# Altium schematic symbol library RN2903.SchLib: 11 symbols
Pins are listed as number, name and electrical type; pins without a type are passive.

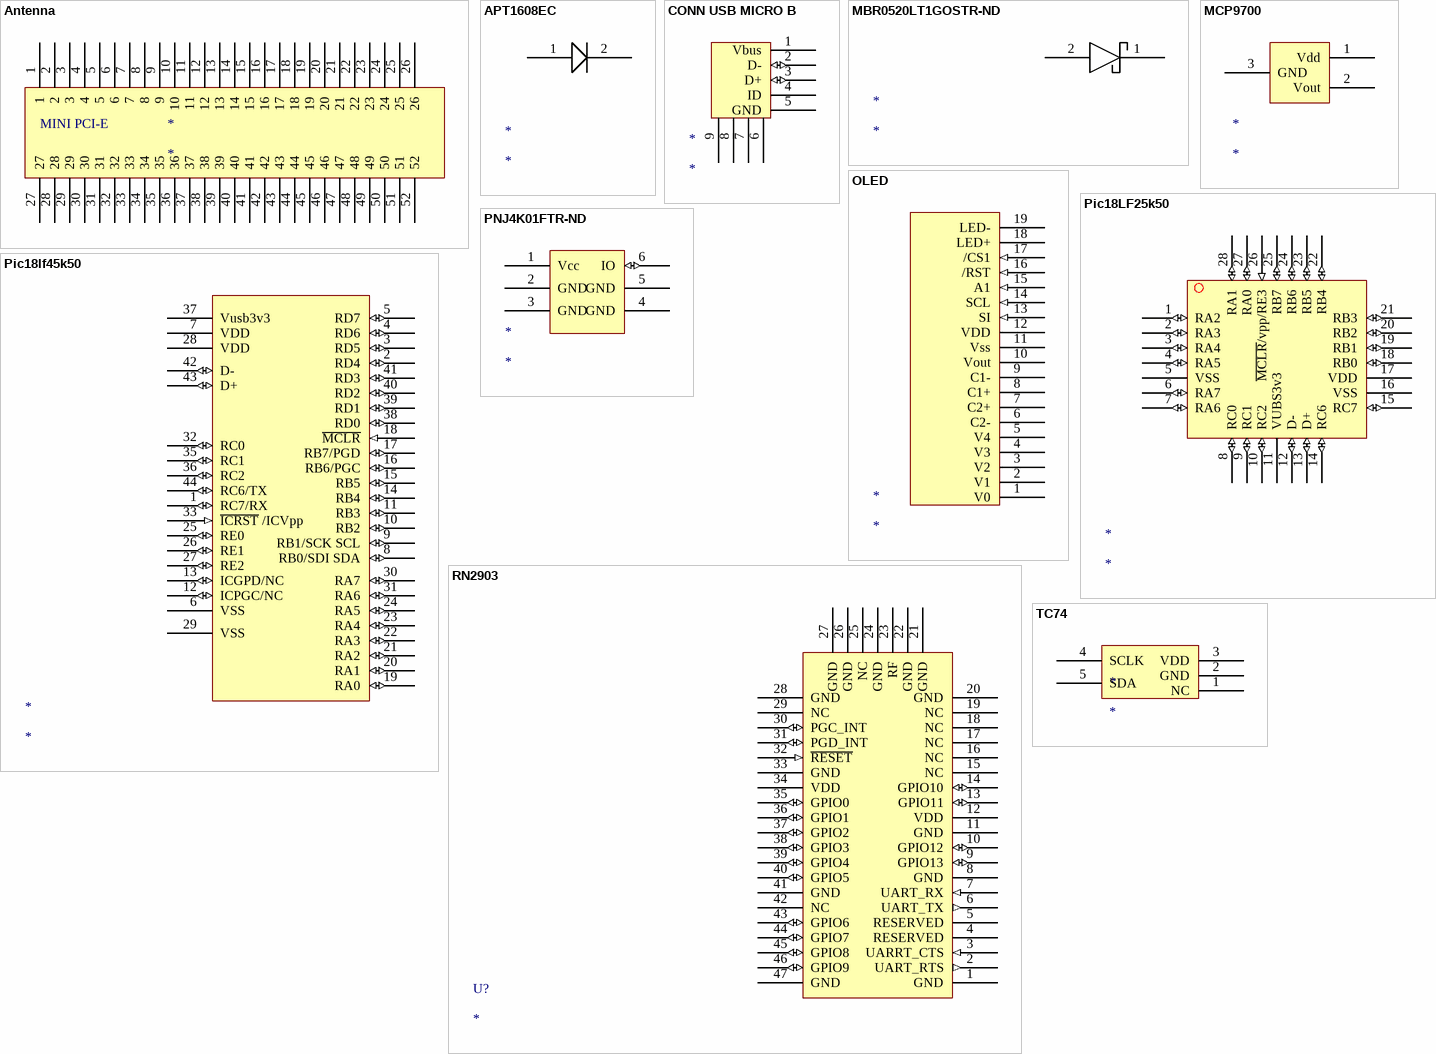
[diagram p0: symbols Antenna to TC74]

## Antenna
designator *
footprint Antenna (SMA-J-P-X-ST-EM1)
pins: 1, 2, 3, 4, 5, 6, 7, 8, 9, 10, 11, 12, 13, 14, 15, 16, 17, 18, 19, 20, 21, 22, 23, 24, 25, 26, 27, 28, 29, 30, 31, 32, 33, 34, 35, 36, 37, 38, 39, 40, 41, 42, 43, 44, 45, 46, 47, 48, 49, 50, 51, 52
text: MINI PCI-E

## APT1608EC
designator *
pins: 1, 2 0

## CONN USB MICRO B
designator *
footprint CONN USB MICRO B (10118192-0001LF)
pins: 1 Vbus (power), 2 D- (io), 3 D+ (io), 4 ID, 5 GND (power), 6 GND (power), 7 GND (power), 8 GND (power), 9 GND (power)

## MBR0520LT1GOSTR-ND
designator *
footprint Diode
pins: 1, 2 0

## MCP9700
designator *
footprint SOT95P237X10-3N (SOT23, 3-Leads, Body 3.0x2.6mm (max), Pitch 0.95mm, IPC Medium Density)
pins: 1 Vdd (power), 2 Vout (power), 3 GND (power)

## OLED
designator *
footprint OLED (NHD-C12832A1Z-FSW-FBW-3V3)
pins: 1 V0 (power), 2 V1 (power), 3 V2 (power), 4 V3 (power), 5 V4 (power), 6 C2- (power), 7 C2+ (power), 8 C1+ (power), 9 C1- (power), 10 Vout (power), 11 Vss (power), 12 VDD (power), 13 SI (in), 14 SCL (in), 15 A1 (in), 16 /RST (in), 17 /CS1 (in), 18 LED+ (power), 19 LED- (power)

## Pic18LF25k50
designator *
footprint PIC18LF25k50 28Pin (QFN, 28-Leads, Body 6.0x6.0mm (max), Pitch 0.65mm, IPC Medium Density)
pins: 1 RA2 (io), 2 RA3 (io), 3 RA4 (io), 4 RA5 (io), 5 VSS (power), 6 RA7 (io), 7 RA6 (io), 8 RC0 (io), 9 RC1 (io), 10 RC2 (io), 11 VUBS3v3 (power), 12 D- (io), 13 D+ (io), 14 RC6 (io), 15 RC7 (io), 16 VSS (power), 17 VDD (power), 18 RB0 (io), 19 RB1 (io), 20 RB2 (io), 21 RB3 (io), 22 RB4 (io), 23 RB5 (io), 24 RB6 (io), 25 RB7 (io), 26 ~{MCLR}/vpp/RE3 (in), 27 RA0 (io), 28 RA1 (io)

## Pic18lf45k50
designator *
footprint TQFP-44_M (44-Pin Thin Quad Flat Pack 0.8 mm Pitch, 1.0/0.1 mm Lead Form, IPC Low Density)
pins: 1 RC7/RX (io), 2 RD4 (io), 3 RD5 (io), 4 RD6 (io), 5 RD7 (io), 6 VSS (power), 7 VDD (power), 8 RB0/SDI SDA (io), 9 RB1/SCK SCL (io), 10 RB2 (io), 11 RB3 (io), 12 ICPGC/NC (io), 13 ICGPD/NC (io), 14 RB4 (io), 15 RB5 (io), 16 RB6/PGC (io), 17 RB7/PGD (io), 18 ~{MCLR} (in), 19 RA0 (io), 20 RA1 (io), 21 RA2 (io), 22 RA3 (io), 23 RA4 (io), 24 RA5 (io), 25 RE0 (io), 26 RE1 (io), 27 RE2 (io), 28 VDD (power), 29 VSS (power), 30 RA7 (io), 31 RA6 (io), 32 RC0 (io), 33 ~{ICRST} /ICVpp (in), 35 RC1 (io), 36 RC2 (io), 37 Vusb3v3 (power), 38 RD0 (io), 39 RD1 (io), 40 RD2 (io), 41 RD3 (io), 42 D- (io), 43 D+ (io), 44 RC6/TX (io)

## PNJ4K01FTR-ND
designator *
footprint PNJ4K01FTR-ND (PNJ4K01F)
pins: 1 Vcc (power), 2 GND (power), 3 GND (power), 4 GND (power), 5 GND (power), 6 IO (io)

## RN2903
designator U?
footprint RN2903
pins: 1 GND (power), 2 UART_RTS (out), 3 UARRT_CTS (in), 4 RESERVED, 5 RESERVED, 6 UART_TX (out), 7 UART_RX (in), 8 GND (power), 9 GPIO13 (io), 10 GPIO12 (io), 11 GND (power), 12 VDD (power), 13 GPIO11 (io), 14 GPIO10 (io), 15 NC, 16 NC, 17 NC, 18 NC, 19 NC, 20 GND, 21 GND (power), 22 GND (power), 23 RF, 24 GND (power), 25 NC, 26 GND (power), 27 GND (power), 28 GND (power), 29 NC, 30 PGC_INT (io), 31 PGD_INT (io), 32 ~{RESET} (in), 33 GND (power), 34 VDD (power), 35 GPIO0 (io), 36 GPIO1 (io), 37 GPIO2 (io), 38 GPIO3 (io), 39 GPIO4 (io), 40 GPIO5 (io), 41 GND (power), 42 NC, 43 GPIO6 (io), 44 GPIO7 (io), 45 GPIO8 (io), 46 GPIO9 (io), 47 GND (power)

## TC74
designator *
footprint SOT95P280X15-5N (SOT23, 5-Leads, Body 3.0x3.1mm (max), Pitch 0.95mm, IPC Medium Density)
pins: 1 NC, 2 GND (power), 3 VDD (power), 4 SCLK, 5 SDA